# EAGLE library part 62000811722 (library WR-WTB)
WR-WTB 2.00 mm Male Horizontal Shrouded Header Material Properties Insulator Material PA66 Insulator Flammability Rating UL94 V-0 Color Beige Contact Material Copper Alloy Contact Plating Tin Contact Type Stamped Certification UL Approval E323964 General Information Operating Temperature -25 °C up to +85 °C Compliance RoHS IR 2 A Working Voltage 125 V (AC) Withstanding Voltage 800 V (AC) Contact Resistance 20 mΩ RISO 1000 MΩ Pitch 2 mm Gender Male Type Horizontal Packaging Properties Packaging Bag Details see: www.we-online.com/en/components/products/WTB_2_00_MALE_HORIZONTAL_SHROUDED_HEADER_6200XX11722 Updated by Ella 2025-03-06 2025 (C) Würth Elektronik
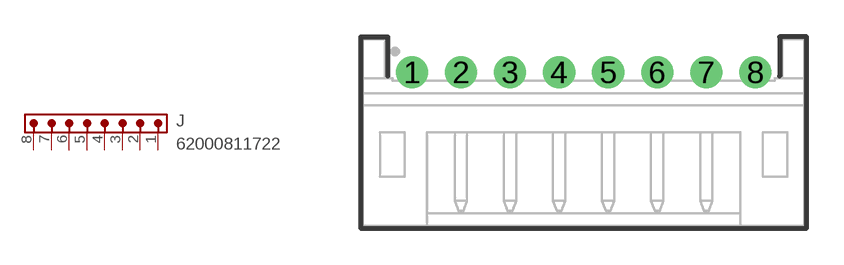
[diagram p106: symbol with the pads of 62000811722; footprint 62000811722]

Designator prefix J

## 62000811722 (CONTACT-RESISTANCE: 20mOhm; DATASHEET: https://www.we-online.com/redexpert/spec/62000811722?ae; GENDER: Male; IR: 2A; L: 18mm; MOUNT: THT; PACKAGING: Bag; PART-NUMBER: 62000811722; PCB-CABLE-PANEL: PCB; PINS: 8; PITCH: 2mm; TYPE: Horizontal; VALUE: 62000811722; WORKING-VOLTAGE: 125V(AC))  [62000811722]
1  1  pas
2  2  pas
3  3  pas
4  4  pas
5  5  pas
6  6  pas
7  7  pas
8  8  pas

## Footprint 62000811722 (pad centres in mm)
WR-WTB 2.00 mm Male Horizontal Shrouded Header,8 Pins
drill 0.8: 1 -7,2.45; 2 -5,2.45; 3 -3,2.45; 4 -1,2.45; 5 1,2.45; 6 3,2.45; 7 5,2.45; 8 7,2.45